# Altium schematic symbol library STM32G031F6P6.Schlib: 1 symbol
Pins are listed as number, name and electrical type; pins without a type are passive.

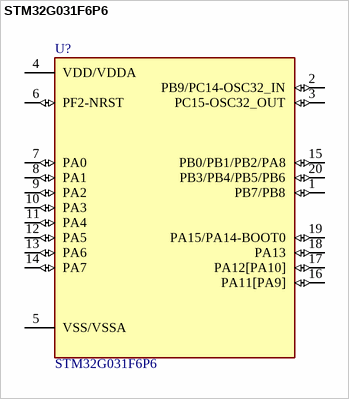
[diagram p0: symbol STM32G031F6P6]

## STM32G031F6P6
designator U?
MCU 32-Bit STM32G031 ARM Cortex-M0+ RISC 32KB Flash 1.7V to 3.6V 20-Pin TSSOP Tube; Manufacturer: STMicroelectronics; Number of I/Os: 18; Peripherals: Brown-out Detect/Reset,POR,PWM,WDT,DMA; Interface: I2C,SPI,IrDA,UART,USART; Oscillator Type: Internal; RoHS Compliant: Yes; Case/Package: TSSOP; Status: To review; Core Architecture: ARM; Series: STM32G0; Max Operating Temperature: 85°C; Min Operating Temperature: -40°C; Memory Size: 32KB; Mount: Surface Mount; Memory Type: FLASH; Manufacturer Part Number: STM32G031F6P6; Component Type: Integrated Circuits
pins: 1 PB7/PB8 (io), 2 PB9/PC14-OSC32_IN (io), 3 PC15-OSC32_OUT (io), 4 VDD/VDDA (power), 5 VSS/VSSA (power), 6 PF2-NRST (io), 7 PA0 (io), 8 PA1 (io), 9 PA2 (io), 10 PA3 (io), 11 PA4 (io), 12 PA5 (io), 13 PA6 (io), 14 PA7 (io), 15 PB0/PB1/PB2/PA8 (io), 16 PA11[PA9] (io), 17 PA12[PA10] (io), 18 PA13 (io), 19 PA15/PA14-BOOT0 (io), 20 PB3/PB4/PB5/PB6 (io)